# EAGLE library part WE-TVS_SOT23-6L_82402304 (library Eagle_WE-TVS (rev26a))
WE-TVS TVS Diode – Standard Series Characteristics Fast turn-on Low clamping voltage High ESD withstand voltage Uni- or bidirectional protection Small package Epoxy flame resistant UL94 V-0 Applications DC power supply USB Power Delivery (PD) Headsets and accessories PDAs Digital cameras MP3-Player Touch Panels Notebooks ESD, EFT and Surge Protection ESD protection in accordance with EN 61000-4-2 – 8 kV contact discharge – 15 kV air discharge <https://www.we-online.com/components/media/o106433v209%20Family_WE-TVS_Standard.jpg> Details see: www.we-online.com/en/components/products/WE-TVS <www.we-online.com/catalog/WE-TVS/?utm_source=eagle_model&utm_medium=description_link&utm_campaign=eisos_eagle> Updated by Ella Wu 2019-07-12 2019 (C) Würth Elektronik
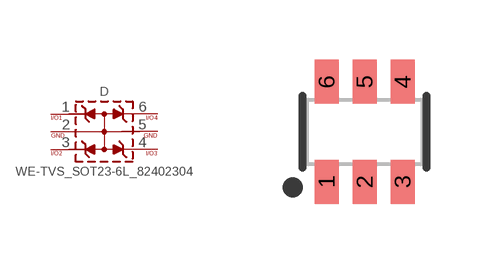
[diagram p12: symbol with the pads of WE-TVS_SOT23-6L; footprint WE-TVS_SOT23-6L]

Designator prefix D

## WE-TVS_SOT23-6L_82402304 (CCH-TYP: 13pF; CHANNELS: 4; DATASHEET-URL: https://www.we-online.com/redexpert/spec/82402304?ae; HEIGHT: 1.16mm; IPEAK: 6A; LENGTH: 2.9mm; MOUNT: SMT; PART-NUMBER: 82402304; POLARITY: Unidirectional; SIZE: SOT23-6L; VALUE: 82402304; VBR-MIN: 6V; VCH-CLAMP-ESD: 8.5V; VCH-MAX: 5V; VESD-CONTACT: 10kV; WIDTH: 2.8mm)  [WE-TVS_SOT23-6L]
1  1  pas
2  GND  pas
3  2  pas
4  3  pas
5  GND  pas
6  4  pas

## Footprint WE-TVS_SOT23-6L (pad centres in mm)
WE-TVS TVS Diode Size: SOT23-6L L X W X H = 2.8mm X 2.9mm X 1.45mm
smd 0.6 x 1.1: 1 -0.95,-1.25; 2 0,-1.25; 3 0.95,-1.25; 4 0.95,1.25; 5 0,1.25; 6 -0.95,1.25